# Altium schematic symbol library Dual_Schottky_KKS.SchLib: 1 symbol
Pins are listed as number, name and electrical type; pins without a type are passive.

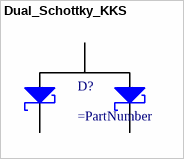
[diagram p0: symbol Dual_Schottky_KKS]

## Dual_Schottky_KKS
designator D?
pins: 1 K, 2 K, 3 S